# Altium footprint library 47272_0001.PcbLib: 1 footprints
Each footprint in its own frame and in the unit in brackets; x right, y up, seen from the top. Pads: shape width x height; smd on the part's side, far side on the other; paste and mask are expansions set on the pad; w line width, h text height; cw(c..) or ccw(c..) is an arc to the next point about the centre after c.
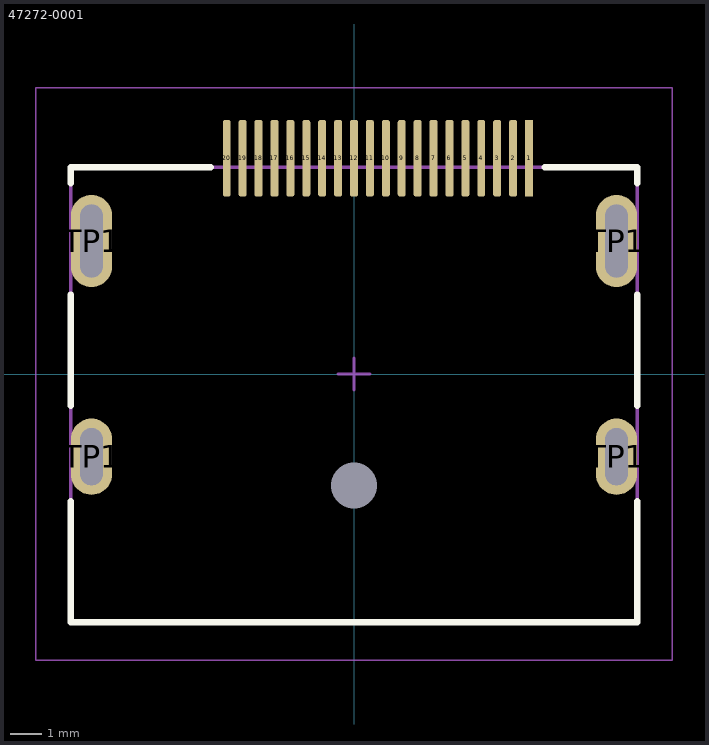
[diagram p0: the footprint, top view; thin cyan lines are the x and y axes]

## 47272-0001 [mm] "DisplayPort Receptacle, Pitch 0.50mm, Right-Angle"
height 6.65
pads (25):
  rect 0.25x2.4 smd: 1(5.5,6.78)
  rrect50% 0.25x2.4 smd: 2(5,6.78) 3(4.5,6.78) 4(4,6.78) 5(3.5,6.78) 6(3,6.78) 7(2.5,6.78) 8(2,6.78) 9(1.5,6.78) 10(1,6.78) 11(0.5,6.78) 12(0,6.78) 13(-0.5,6.78) 14(-1,6.78) 15(-1.5,6.78) 16(-2,6.78) 17(-2.5,6.78) 18(-3,6.78) 19(-3.5,6.78) 20(-4,6.78)
  oval 1.3x2.4 hole 1.8 slot 0.7 at 0 deg: TP1(-8.25,-2.6) TP1(8.25,-2.6)
  oval 1.3x2.9 hole 2.3 slot 0.7 at 0 deg: TP1(-8.25,4.18) TP1(8.25,4.18)
  round 0 hole 1.45: ""(0,-3.5)
Top Overlay:
  lines w0.2: -8.9,-4 -8.9,-7.8 8.9,-7.8 8.9,-4 ; -8.9,-1 -8.9,2.5 ; -8.9,6 -8.9,6.5 -4.5,6.5 ; 6,6.5 8.9,6.5 8.9,6 ; 8.9,-1 8.9,2.5
Top Comment:
  text ".Comment" at 1.25,9.25 h1.2
Top Designator:
  text ".Designator" at -0.25,9.25 h1.2
Top Component Outline:
  lines w0.1: -8.9,-7.8 0,-7.8 8.9,-7.8 8.9,6.5 -8.9,6.5 -8.9,-7.8
Top Courtyard (Mech15):
  lines w0.05: -10,-9 10,-9 10,9 0,9 -10,9 -10,-9
  lines w0.1: -0.5,0 0.5,0 ; 0,-0.5 0,0.5
3D body "472720001.stp": height 6.69, standoff -2.06, extent -8.895,-7.8 8.89,7.09